# EAGLE library part HEAD_2.54_6 (library pixhawk2)
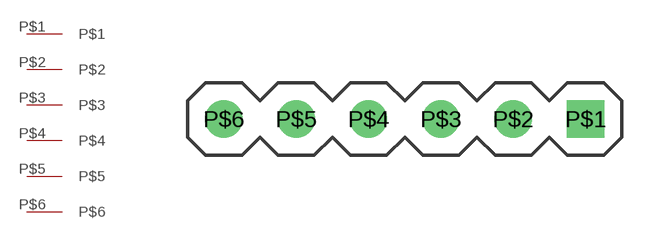
[diagram p94: symbol with the pads of HEADER_2.54MM-1X10; footprint HEADER_2.54MM-1X10]

Designator prefix -

## HEAD_2.54_6  [HEADER_2.54MM-1X10]
P$1  P$1
P$2  P$2
P$3  P$3
P$4  P$4
P$5  P$5
P$6  P$6

## Footprint HEADER_2.54MM-1X10 (pad centres in mm)
drill 0.8 square: P$1 -1.27,0
drill 0.8: P$2 -3.81,0; P$3 -6.35,0; P$4 -8.89,0; P$5 -11.43,0; P$6 -13.97,0